# Altium footprint library ESP32_Control_Board_Design.PcbLib: 1 footprints
Each footprint in its own frame and in the unit in brackets; x right, y up, seen from the top. Pads: shape width x height; smd on the part's side, far side on the other; paste and mask are expansions set on the pad; w line width, h text height; cw(c..) or ccw(c..) is an arc to the next point about the centre after c.
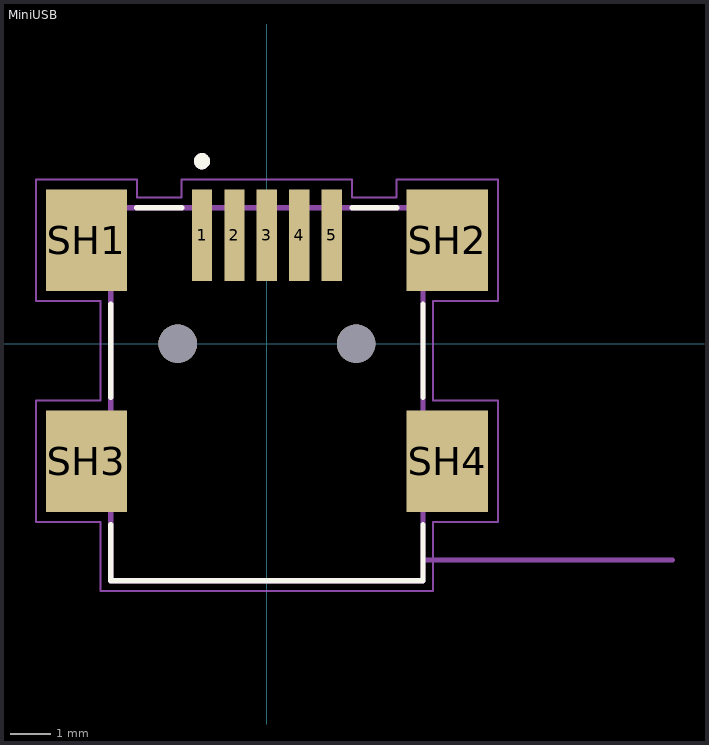
[diagram p0: the footprint, top view; thin cyan lines are the x and y axes]

## MiniUSB [mm]
height 3.95
pads (11):
  rect 0.5x2.25 smd: 1(-1.6,2.675) 2(-0.8,2.675) 3(0,2.675) 4(0.8,2.675) 5(1.6,2.675)
  rect 2x2.5 smd: SH1(-4.45,2.55) SH2(4.45,2.55) SH3(-4.45,-2.9) SH4(4.45,-2.9)
  round 0.95 hole 0.95 unplated: ""(-2.2,0) ""(2.2,0)
Top Overlay:
  circle w0.2: c-1.6,4.5 r0.1
  lines w0.127: -3.85,-4.47 -3.85,-5.85 3.85,-5.85 3.85,-4.47 ; -3.85,-1.33 -3.85,0.98 ; -3.21,3.35 -2.1,3.35 ; 2.1,3.35 3.21,3.35 ; 3.85,-1.33 3.85,0.98
Mechanical 13:
  circle w0.2: c-1.6,4.5 r0.1
  lines w0.127: 10,-5.34 3.85,-5.34 ; 3.85,-5.34 3.85,3.35 -3.85,3.35 -3.85,-5.85 3.85,-5.85 3.85,-5.34
  text "PCB EDGE" at 4.254,-6.347 h0.8
Mechanical 15:
  lines w0.05: -5.7,-4.4 -4.1,-4.4 -4.1,-6.1 4.1,-6.1 4.1,-4.4 5.7,-4.4 5.7,-1.4 4.1,-1.4 4.1,1.05 5.7,1.05 5.7,4.05 3.2,4.05 3.2,3.6 2.1,3.6 2.1,4.05 -2.1,4.05 -2.1,3.6 -3.2,3.6 -3.2,4.05 -5.7,4.05 -5.7,1.05 -4.1,1.05 -4.1,-1.4 -5.7,-1.4 -5.7,-4.4
3D body "step_temp.STEP": height 3.95, standoff -1.05, extent -4.95,-5.85 4.95,3.47